# EAGLE library part IS31FL3216 (library issi)
LED Driver IC 16 Output Linear PWM Dimming 20mA
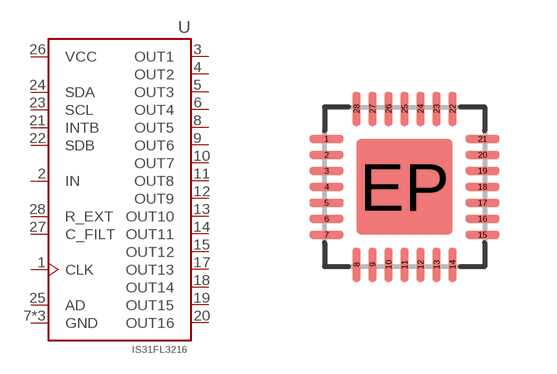
[diagram p1: symbol with the pads of QFN28-4X4_EP; footprint QFN28-4X4_EP]

Designator prefix U

## IS31FL3216 (DIGIKEY: 706-1217-1-ND; MFR: ISSI; MPN: IS31FL3216-QFLS2-TR; P1I: o)  [QFN28-4X4_EP]
1  CLK
2  IN
3  OUT1
4  OUT2
5  OUT3
6  OUT4
7  GND
8  OUT5
9  OUT6
10  OUT7
11  OUT8
12  OUT9
13  OUT10
14  OUT11
15  OUT12
16  GND
17  OUT13
18  OUT14
19  OUT15
20  OUT16
21  INTB
22  SDB
23  SCL
24  SDA
25  AD
26  VCC
27  C_FILT
28  R_EXT
EP  GND

## Footprint QFN28-4X4_EP (pad centres in mm)
QFN28 5x5 mm body
smd 0.85 x 0.2: 1 -1.95,1.2; 2 -1.95,0.8; 3 -1.95,0.4; 4 -1.95,0; 5 -1.95,-0.4; 6 -1.95,-0.8; 7 -1.95,-1.2; 15 1.95,-1.2; 16 1.95,-0.8; 17 1.95,-0.4; 18 1.95,0; 19 1.95,0.4; 20 1.95,0.8; 21 1.95,1.2
smd 0.2 x 0.85: 8 -1.2,-1.95; 9 -0.8,-1.95; 10 -0.4,-1.95; 11 0,-1.95; 12 0.4,-1.95; 13 0.8,-1.95; 14 1.2,-1.95; 22 1.2,1.95; 23 0.8,1.95; 24 0.4,1.95; 25 0,1.95; 26 -0.4,1.95; 27 -0.8,1.95; 28 -1.2,1.95
smd 2.4 x 2.4: EP 0,0